# EAGLE library part AD5272 (library analog-devices)
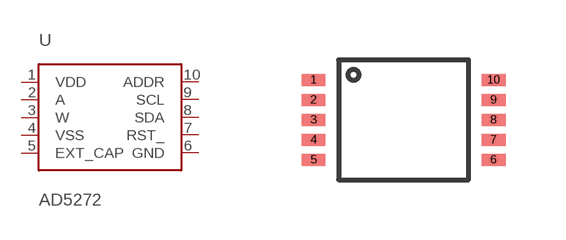
[diagram p36: symbol with the pads of MSOP10; footprint MSOP10]

Designator prefix -

## AD5272  [MSOP10]
1  VDD
2  A
3  W
4  VSS
5  EXT_CAP
6  GND
7  RST_
8  SDA
9  SCL
10  ADDR

## Footprint MSOP10 (pad centres in mm)
smd 0.6 x 0.3: 1 -2.25,1; 2 -2.25,0.5; 3 -2.25,0; 4 -2.25,-0.5; 5 -2.25,-1; 6 2.25,-1; 7 2.25,-0.5; 8 2.25,0; 9 2.25,0.5; 10 2.25,1